# Altium footprint library Test point dual.PcbLib: 1 footprints
Each footprint in its own frame and in the unit in brackets; x right, y up, seen from the top. Pads: shape width x height; smd on the part's side, far side on the other; paste and mask are expansions set on the pad; w line width, h text height; cw(c..) or ccw(c..) is an arc to the next point about the centre after c.
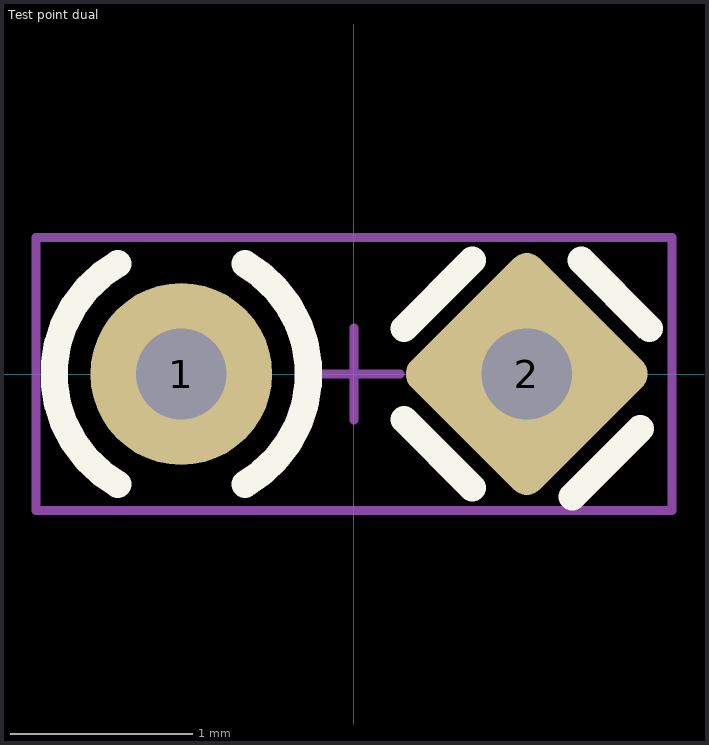
[diagram p0: the footprint, top view; thin cyan lines are the x and y axes]

## Test point dual [mm]
pads (2):
  round 1 hole 0.5 paste-2539.97 mask+0.15: 1(-0.95,0)
  rrect20% 1x1 hole 0.5 rot 45 paste-2539.97 mask+0.2: 2(0.95,0)
Top Overlay:
  lines w0.15: -1.3,-0.606 cw(c-0.95,0) -1.3,0.606 ; -0.6,-0.606 ccw(c-0.95,0) -0.6,0.606 ; 0.275,-0.25 0.65,-0.625 ; 0.275,0.25 0.65,0.625 ; 1.2,-0.675 1.575,-0.3 ; 1.25,0.625 1.625,0.25
Mechanical 1:
  text ".Designator" at -1.575,-0.625 h0.38
Mechanical 15:
  lines w0.05: -0.254,0 0.254,0 ; 0,-0.254 0,0.254 ; -1.75,-0.75 -1.75,0.75 1.75,0.75 1.75,-0.75 -1.75,-0.75